# EAGLE library part SN65*34 (library NewSDR)
High-Speed Differential Receivers Texas Instruments
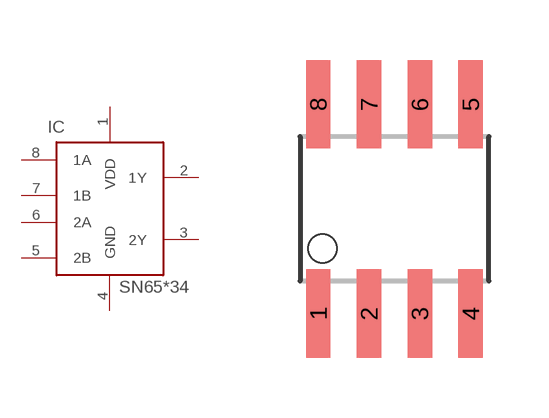
[diagram p37: symbol with the pads of SO8; footprint SO8]

Designator prefix IC

## SN65LVD34D, SN65LVDT34D  [SO8]
1  VDD  pwr
2  1Y  out
3  2Y  out
4  GND  pwr
5  2B  in
6  2A  in
7  1B  in
8  1A  in

## Footprint SO8 (pad centres in mm)
smd 0.61 x 2.21: 1 -1.905,-2.616; 2 -0.635,-2.616; 3 0.635,-2.616; 4 1.905,-2.616; 5 1.905,2.616; 6 0.635,2.616; 7 -0.635,2.616; 8 -1.905,2.616